# Altium schematic symbol library gf-sch.SchLib: 13 symbols
Pins are listed as number, name and electrical type; pins without a type are passive.

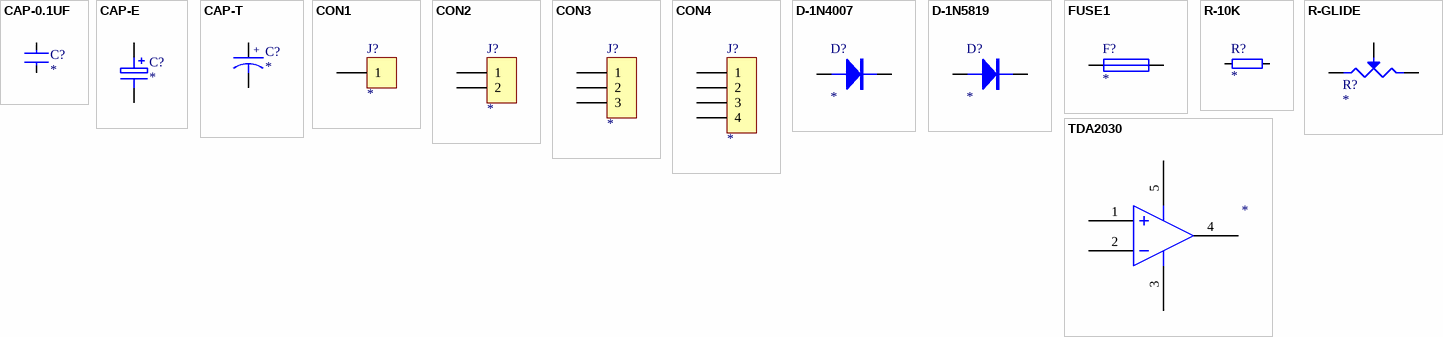
[diagram p0: symbols CAP-0.1UF to TDA2030]

## CAP-0.1UF
designator C?
SMD-CAP
footprint 0805C
pins: 1, 2

## CAP-E
designator C?
电解电容
footprint 3528C
footprint 4700U/35V
pins: 1, 2

## CAP-T
designator C?
钽电容
footprint C3216
pins: 1, 2
text: +

## CON1
designator J?
Connector
footprint GDK
pins: 1

## CON2
designator J?
Connector
footprint VOICE-1
pins: 1, 2

## CON3
designator J?
Connector
footprint POWER-1
pins: 1, 2, 3

## CON4
designator J?
Connector
footprint HB-95-4
pins: 1, 2, 3, 4

## D-1N4007
designator D?
Diode
footprint M7
pins: 1, 2

## D-1N5819
designator D?
Diode
footprint DO-41
footprint DO-35
pins: 1, 2

## FUSE1
designator F?
FUSE
pins: 1, 2

## R-10K
designator R?
resistor
footprint 0805R
footprint 0603R
footprint 1206R
pins: 1, 2

## R-GLIDE
designator R?
footprint RV09-5
pins: 1, 2, 3 W

## TDA2030
designator ?
footprint TDA2030
pins: 1, 2, 3, 4, 5